# Altium footprint library WURTH_750315228.PcbLib: 1 footprints
Each footprint in its own frame and in the unit in brackets; x right, y up, seen from the top. Pads: shape width x height; smd on the part's side, far side on the other; paste and mask are expansions set on the pad; w line width, h text height; cw(c..) or ccw(c..) is an arc to the next point about the centre after c.
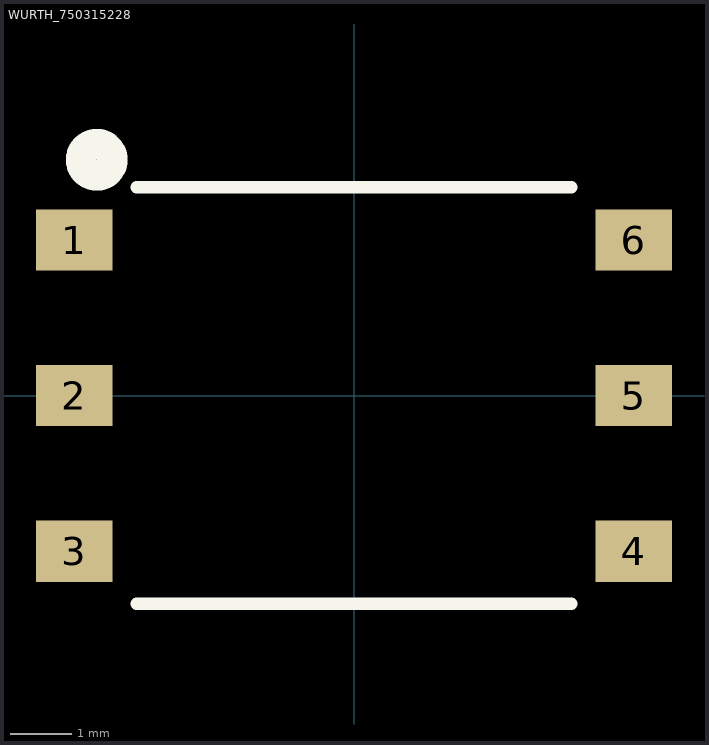
[diagram p0: the footprint, top view; thin cyan lines are the x and y axes]

## WURTH_750315228 [mm]
pads (6):
  rect 1.25x1 smd: 1(-4.57,2.54) 2(-4.57,0) 3(-4.57,-2.54) 4(4.57,-2.54) 5(4.57,0) 6(4.57,2.54)
Top Overlay:
  circle w0.5: c-4.2,3.85 r0.255
  lines w0.2: -3.55,-3.4 3.55,-3.4 ; -3.55,3.4 3.55,3.4
3D body: height 4.19, standoff 0, extent -3.575,-3.375 3.575,3.375